# EAGLE library part MINIPCI (library MiniPCI)
MiniPCI Connector
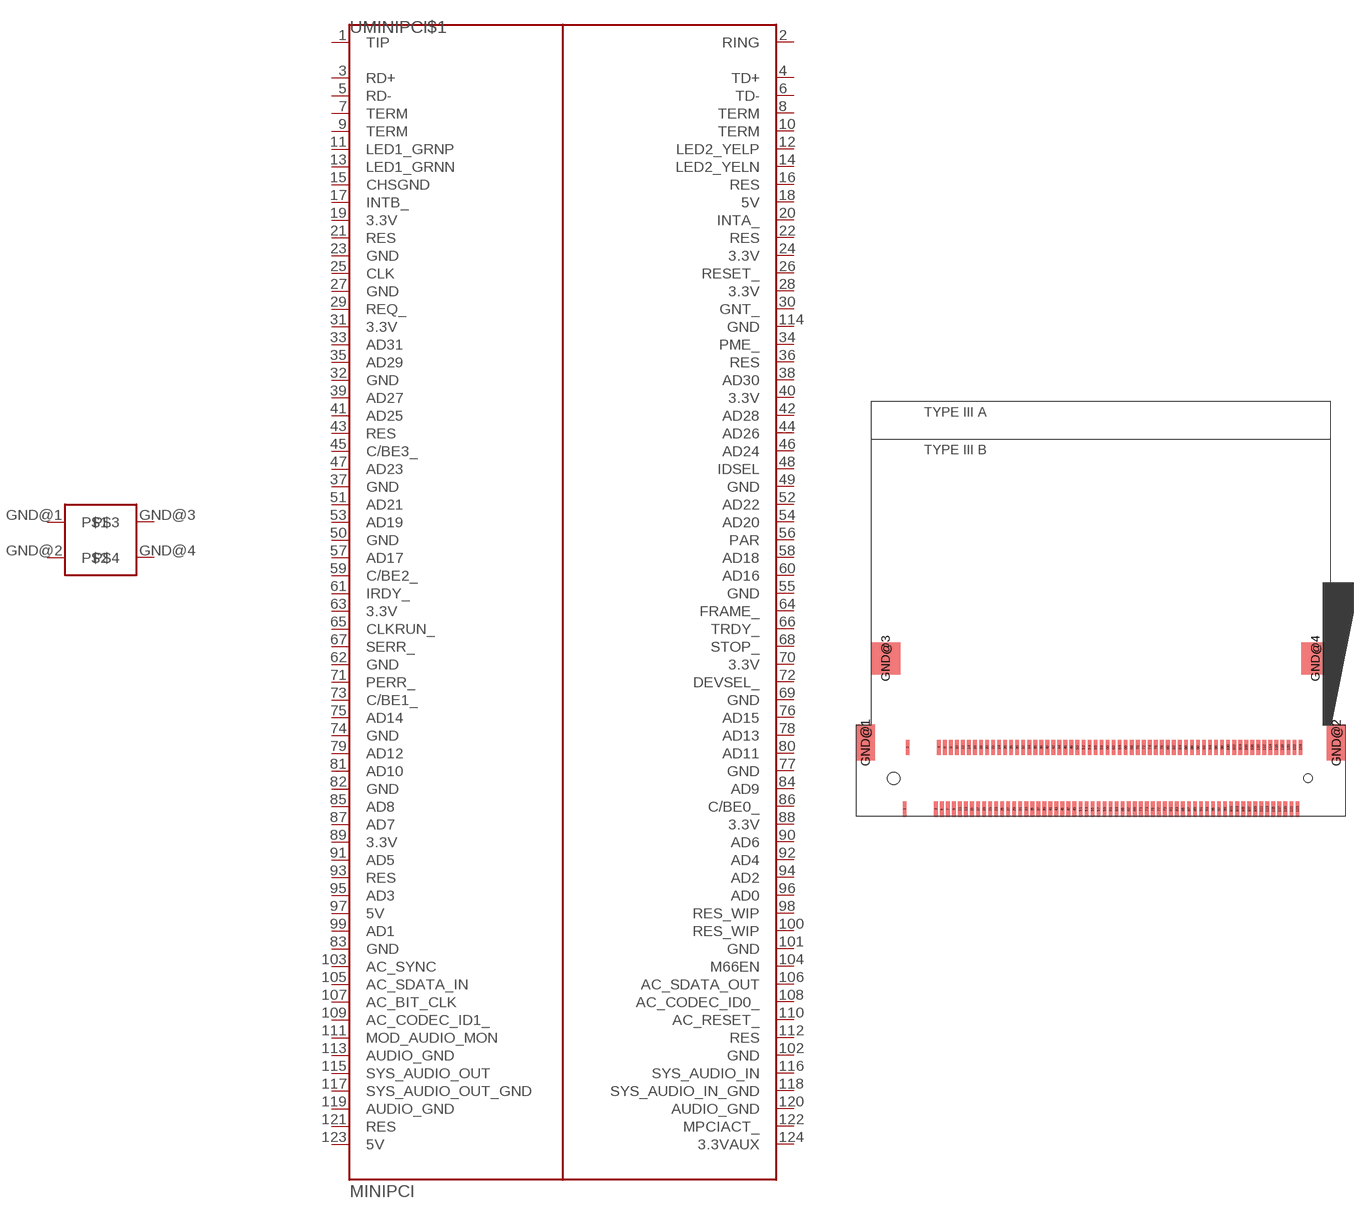
[diagram p0: symbol with the pads of MINIPCI; footprint MINIPCI]

Designator prefix -; gates MINIPCI$1=MINIPCI_CON G$1=GND_PAD

## MINIPCI  [MINIPCI]
1  MINIPCI$1:TIP
2  MINIPCI$1:RING
3  MINIPCI$1:RD+
4  MINIPCI$1:TD+
5  MINIPCI$1:RD-
6  MINIPCI$1:TD-
7  MINIPCI$1:TERM
8  MINIPCI$1:TERM
9  MINIPCI$1:TERM
10  MINIPCI$1:TERM
11  MINIPCI$1:LED1_GRNP
12  MINIPCI$1:LED2_YELP
13  MINIPCI$1:LED1_GRNN
14  MINIPCI$1:LED2_YELN
15  MINIPCI$1:CHSGND
16  MINIPCI$1:RES
17  MINIPCI$1:INTB_
18  MINIPCI$1:5V  pwr
19  MINIPCI$1:3.3V  pwr
20  MINIPCI$1:INTA_
21  MINIPCI$1:RES
22  MINIPCI$1:RES
23  MINIPCI$1:GND  pwr
24  MINIPCI$1:3.3V  pwr
25  MINIPCI$1:CLK
26  MINIPCI$1:RESET_
27  MINIPCI$1:GND  pwr
28  MINIPCI$1:3.3V  pwr
29  MINIPCI$1:REQ_
30  MINIPCI$1:GNT_
31  MINIPCI$1:3.3V  pwr
32  MINIPCI$1:GND  pwr
33  MINIPCI$1:AD31
34  MINIPCI$1:PME_
35  MINIPCI$1:AD29
36  MINIPCI$1:RES
37  MINIPCI$1:GND  pwr
38  MINIPCI$1:AD30
39  MINIPCI$1:AD27
40  MINIPCI$1:3.3V  pwr
41  MINIPCI$1:AD25
42  MINIPCI$1:AD28
43  MINIPCI$1:RES
44  MINIPCI$1:AD26
45  MINIPCI$1:C/BE3_
46  MINIPCI$1:AD24
47  MINIPCI$1:AD23
48  MINIPCI$1:IDSEL
49  MINIPCI$1:GND  pwr
50  MINIPCI$1:GND  pwr
51  MINIPCI$1:AD21
52  MINIPCI$1:AD22
53  MINIPCI$1:AD19
54  MINIPCI$1:AD20
55  MINIPCI$1:GND  pwr
56  MINIPCI$1:PAR
57  MINIPCI$1:AD17
58  MINIPCI$1:AD18
59  MINIPCI$1:C/BE2_
60  MINIPCI$1:AD16
61  MINIPCI$1:IRDY_
62  MINIPCI$1:GND  pwr
63  MINIPCI$1:3.3V  pwr
64  MINIPCI$1:FRAME_
65  MINIPCI$1:CLKRUN_
66  MINIPCI$1:TRDY_
67  MINIPCI$1:SERR_
68  MINIPCI$1:STOP_
69  MINIPCI$1:GND  pwr
70  MINIPCI$1:3.3V  pwr
71  MINIPCI$1:PERR_
72  MINIPCI$1:DEVSEL_
73  MINIPCI$1:C/BE1_
74  MINIPCI$1:GND  pwr
75  MINIPCI$1:AD14
76  MINIPCI$1:AD15
77  MINIPCI$1:GND  pwr
78  MINIPCI$1:AD13
79  MINIPCI$1:AD12
80  MINIPCI$1:AD11
81  MINIPCI$1:AD10
82  MINIPCI$1:GND  pwr
83  MINIPCI$1:GND  pwr
84  MINIPCI$1:AD9
85  MINIPCI$1:AD8
86  MINIPCI$1:C/BE0_
87  MINIPCI$1:AD7
88  MINIPCI$1:3.3V  pwr
89  MINIPCI$1:3.3V  pwr
90  MINIPCI$1:AD6
91  MINIPCI$1:AD5
92  MINIPCI$1:AD4
93  MINIPCI$1:RES
94  MINIPCI$1:AD2
95  MINIPCI$1:AD3
96  MINIPCI$1:AD0
97  MINIPCI$1:5V  pwr
98  MINIPCI$1:RES_WIP
99  MINIPCI$1:AD1
100  MINIPCI$1:RES_WIP
101  MINIPCI$1:GND  pwr
102  MINIPCI$1:GND  pwr
103  MINIPCI$1:AC_SYNC
104  MINIPCI$1:M66EN
105  MINIPCI$1:AC_SDATA_IN
106  MINIPCI$1:AC_SDATA_OUT
107  MINIPCI$1:AC_BIT_CLK
108  MINIPCI$1:AC_CODEC_ID0_
109  MINIPCI$1:AC_CODEC_ID1_
110  MINIPCI$1:AC_RESET_
111  MINIPCI$1:MOD_AUDIO_MON
112  MINIPCI$1:RES
113  MINIPCI$1:AUDIO_GND  pwr
114  MINIPCI$1:GND  pwr
115  MINIPCI$1:SYS_AUDIO_OUT
116  MINIPCI$1:SYS_AUDIO_IN
117  MINIPCI$1:SYS_AUDIO_OUT_GND  pwr
118  MINIPCI$1:SYS_AUDIO_IN_GND  pwr
119  MINIPCI$1:AUDIO_GND  pwr
120  MINIPCI$1:AUDIO_GND  pwr
121  MINIPCI$1:RES
122  MINIPCI$1:MPCIACT_
123  MINIPCI$1:5V  pwr
124  MINIPCI$1:3.3VAUX
GND@1  G$1:P$1  pwr
GND@2  G$1:P$2  pwr
GND@3  G$1:P$3  pwr
GND@4  G$1:P$4  pwr

## Footprint MINIPCI (pad centres in mm)
smd 0.5 x 2: 1 1.45,-4.1; 2 1.85,4.1; 3 5.6,-4.1; 4 6,4.1; 5 6.4,-4.1; 6 6.8,4.1; 7 7.2,-4.1; 8 7.6,4.1; 9 8,-4.1; 10 8.4,4.1; 11 8.8,-4.1; 12 9.2,4.1; 13 9.6,-4.1; 14 10,4.1; 15 10.4,-4.1; 16 10.8,4.1; 17 11.2,-4.1; 18 11.6,4.1; 19 12,-4.1; 20 12.4,4.1; 21 12.8,-4.1; 22 13.2,4.1; 23 13.6,-4.1; 24 14,4.1; 25 14.4,-4.1; 26 14.8,4.1; 27 15.2,-4.1; 28 15.6,4.1; 29 16,-4.1; 30 16.4,4.1; 31 16.8,-4.1; 32 17.2,4.1; 33 17.6,-4.1; 34 18,4.1; 35 18.4,-4.1; 36 18.8,4.1; 37 19.2,-4.1; 38 19.6,4.1; 39 20,-4.1; 40 20.4,4.1; 41 20.8,-4.1; 42 21.2,4.1; 43 21.6,-4.1; 44 22,4.1; 45 22.4,-4.1; 46 22.8,4.1; 47 23.2,-4.1; 48 23.6,4.1; 49 24,-4.1; 50 24.4,4.1; 51 24.8,-4.1; 52 25.2,4.1; 53 25.6,-4.1; 54 26,4.1; 55 26.4,-4.1; 56 26.8,4.1; 57 27.2,-4.1; 58 27.6,4.1; 59 28,-4.1; 60 28.4,4.1; 61 28.8,-4.1; 62 29.2,4.1; 63 29.6,-4.1; 64 30,4.1; 65 30.4,-4.1; 66 30.8,4.1; 67 31.2,-4.1; 68 31.6,4.1; 69 32,-4.1; 70 32.4,4.1; 71 32.8,-4.1; 72 33.2,4.1; 73 33.6,-4.1; 74 34,4.1; 75 34.4,-4.1; 76 34.8,4.1; 77 35.2,-4.1; 78 35.6,4.1; 79 36,-4.1; 80 36.4,4.1; 81 36.8,-4.1; 82 37.2,4.1; 83 37.6,-4.1; 84 38,4.1; 85 38.4,-4.1; 86 38.8,4.1; 87 39.2,-4.1; 88 39.6,4.1; 89 40,-4.1; 90 40.4,4.1; 91 40.8,-4.1; 92 41.2,4.1; 93 41.6,-4.1; 94 42,4.1; 95 42.4,-4.1; 96 42.8,4.1; 97 43.2,-4.1; 98 43.6,4.1; 99 44,-4.1; 100 44.4,4.1; 101 44.8,-4.1; 102 45.2,4.1; 103 45.6,-4.1; 104 46,4.1; 105 46.4,-4.1; 106 46.8,4.1; 107 47.2,-4.1; 108 47.6,4.1; 109 48,-4.1; 110 48.4,4.1; 111 48.8,-4.1; 112 49.2,4.1; 113 49.6,-4.1; 114 50,4.1; 115 50.4,-4.1; 116 50.8,4.1; 117 51.2,-4.1; 118 51.6,4.1; 119 52,-4.1; 120 52.4,4.1; 121 52.8,-4.1; 122 53.2,4.1; 123 53.6,-4.1; 124 54,4.1
smd 2.5 x 4.8: GND@1 -3.75,4.75; GND@2 58.75,4.75
smd 3.8 x 4.2: GND@3 -1.02,15.9; GND@4 56.03,15.9
hole 1.6 at 0,0
hole 1.1 at 55,0